# Altium footprint library Real_Steel_Robotics.PcbLib: 17 footprints (part 1 of 2)
Each footprint in its own frame and in the unit in brackets; x right, y up, seen from the top. Pads: shape width x height; smd on the part's side, far side on the other; paste and mask are expansions set on the pad; w line width, h text height; cw(c..) or ccw(c..) is an arc to the next point about the centre after c.
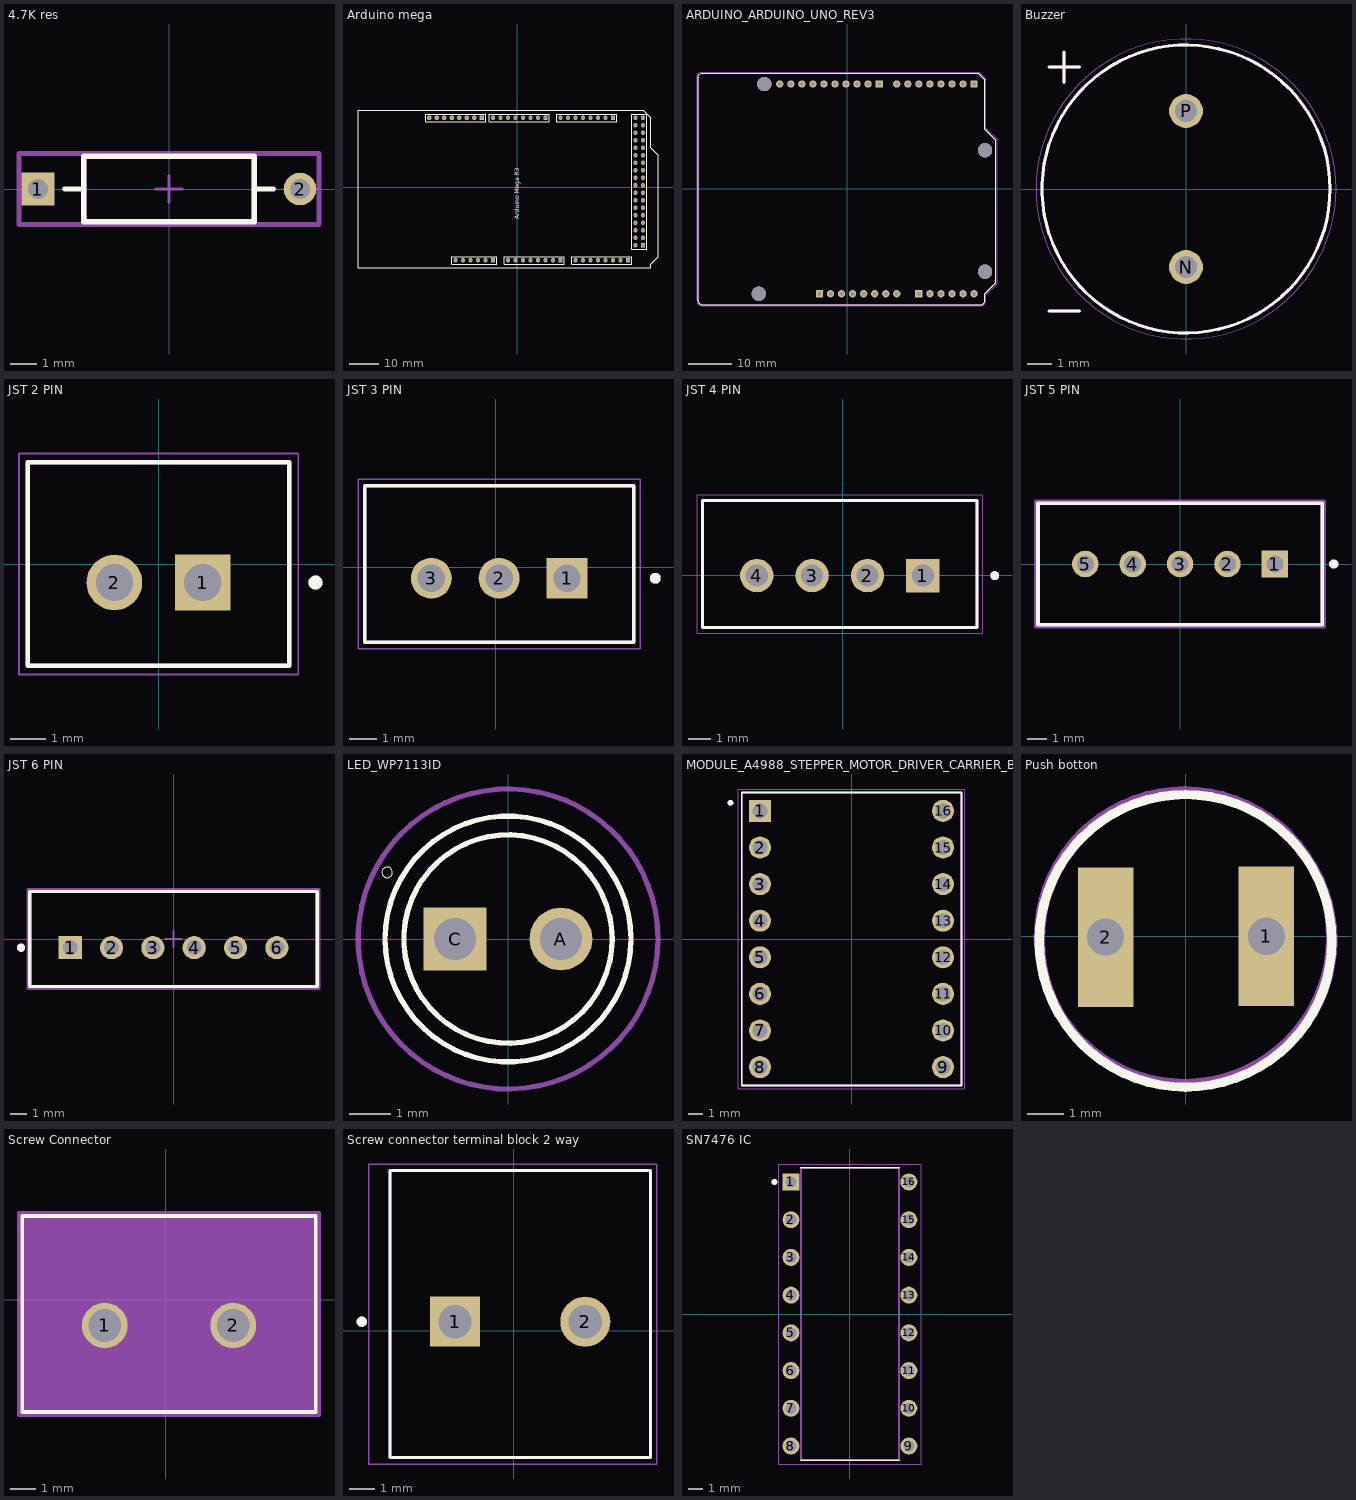
[diagram p0: the footprints below, top view; thin cyan lines are the x and y axes]

## 4.7K res [mm]
pads (2):
  rect 1.25x1.25 hole 0.75 paste-2539.97 mask+0: 1(-5,0)
  round 1.25 hole 0.75 paste-2539.97 mask+0: 2(5,0)
Top Overlay:
  lines w0.2: -3.975,0 -3.25,0 ; 3.25,0 3.975,0 ; -3.25,-1.25 3.25,-1.25 3.25,1.25 -3.25,1.25 -3.25,-1.25
Top 3D Body:
  lines w0.2: -3.25,-1.25 3.25,-1.25 3.25,1.25 -3.25,1.25 -3.25,-1.25
Board:
  lines w0.2: -5.725,-1.35 5.725,-1.35 5.725,1.35 -5.725,1.35 -5.725,-1.35
Top Assembly:
  lines w0.2: -5.725,-1.35 5.725,-1.35 5.725,1.35 -5.725,1.35 -5.725,-1.35
Top Component Center:
  lines w0.1: -0.5,0 0.5,0 ; 0,-0.5 0,0.5
3D body "Res_Vishay_MRS25000C1910FCT00_eec.STEP": height 0.25, standoff 0, extent -5.725,-1.35 5.725,1.35

## Arduino mega [mm]
pads (82):
  rect 1.5x1.5 hole 0.9: 0(9.525,23.495) 8(-12.065,23.495) 21(32.385,23.495) 59(-8.255,-24.765) 67(14.605,-24.765) 75(37.465,-24.765) 79(42.545,-19.685)
  round 1.5 hole 0.9: 1(6.985,23.495) 2(4.445,23.495) 3(1.905,23.495) 4(-0.635,23.495) 5(-3.175,23.495) 6(-5.715,23.495) 7(-8.255,23.495) 9(-14.605,23.495) 10(-17.145,23.495) 11(-19.685,23.495) 12(-22.225,23.495) 13(-24.765,23.495) 14(14.605,23.495) 15(17.145,23.495) 16(19.685,23.495) 17(22.225,23.495) 18(24.765,23.495) 19(27.305,23.495) 20(29.845,23.495) 22(40.005,20.955) 23(42.545,20.955) 24(40.005,18.415) 25(42.545,18.415) 26(40.005,15.875) 27(42.545,15.875) 28(40.005,13.335) 29(42.545,13.335) 30(40.005,10.795) 31(42.545,10.795) 32(40.005,8.255) 33(42.545,8.255) 34(40.005,5.715) 35(42.545,5.715) 36(40.005,3.175) 37(42.545,3.175) 38(40.005,0.635) 39(42.545,0.635) 40(40.005,-1.905) 41(42.545,-1.905) 42(40.005,-4.445) 43(42.545,-4.445) 44(40.005,-6.985) 45(42.545,-6.985) 46(40.005,-9.525) 47(42.545,-9.525) 48(40.005,-12.065) 49(42.545,-12.065) 50(40.005,-14.605) 51(42.545,-14.605) 52(40.005,-17.145) 53(42.545,-17.145) 54(-20.955,-24.765) 55(-18.415,-24.765) 56(-15.875,-24.765) 57(-13.335,-24.765) 58(-10.795,-24.765) 60(-3.175,-24.765) 61(-0.635,-24.765) 62(1.905,-24.765) 63(4.445,-24.765) 64(6.985,-24.765) 65(9.525,-24.765) 66(12.065,-24.765) 68(19.685,-24.765) 69(22.225,-24.765) 70(24.765,-24.765) 71(27.305,-24.765) 72(29.845,-24.765) 73(32.385,-24.765) 74(34.925,-24.765) 76(-27.305,23.495) 77(-29.845,23.495) 78(40.005,-19.685) 80(42.545,23.495) 81(40.005,23.495)
Top Overlay:
  lines w0.2: -31.115,22.225 -10.795,22.225 -10.795,24.765 -31.115,24.765 -31.115,22.225 ; -22.225,-26.035 -22.225,-23.495 -6.985,-23.495 -6.985,-26.035 -22.225,-26.035 ; -9.525,22.225 10.795,22.225 10.795,24.765 -9.525,24.765 -9.525,22.225 ; -4.445,-26.035 15.875,-26.035 15.875,-23.495 -4.445,-23.495 -4.445,-26.035 ; 13.335,22.225 13.335,24.765 33.655,24.765 33.655,22.225 13.335,22.225 ; 18.415,-26.035 38.735,-26.035 38.735,-23.495 18.415,-23.495 18.415,-26.035 ; 38.735,-20.955 43.815,-20.955 43.815,24.765 38.735,24.765 38.735,-20.955
  lines w0.254: 45.085,13.325 47.625,10.785 47.625,-23.495 45.085,-26.035 45.085,-27.305 -52.335,-27.305 -53.975,-27.305 -53.975,-25.665 -53.975,26.035 42.545,26.035 45.085,23.495 45.085,13.335
  text "Arduino Mega R3" at 0.635,-10.795 h1.52

## ARDUINO_ARDUINO_UNO_REV3 [mil]
pads (36):
  round 66 hole 40: 3V3(50.89,-949.18) 5V(150.89,-949.18) A1(750.89,-949.18) A2(850.89,-949.18) A3(950.89,-949.18) A4(1050.89,-949.18) A4_SDA(-509.11,950.82) A5(1150.89,-949.18) A5_SCL(-609.11,950.82) AREF(-409.11,950.82) D1(1050.89,950.82) D2(950.89,950.82) D3(850.89,950.82) D4(750.89,950.82) D5(650.89,950.82) D6(550.89,950.82) D7(450.89,950.82) D9(190.89,950.82) D10(90.89,950.82) D11(-9.11,950.82) D12(-109.11,950.82) D13(-209.11,950.82) GND_1(350.89,-949.18) GND_2(250.89,-949.18) GND_3(-309.11,950.82) IOREF(-149.11,-949.18) RST(-49.11,-949.18) VIN(450.89,-949.18)
  rect 66x66 / inner round 66 / far side rect 66x66 hole 40: A0(650.89,-949.18) D0(1150.89,950.82) D8(290.89,950.82) P1(-249.11,-949.18)
  round 129.92 hole 129.92 unplated: ""(-799.11,-949.18) ""(-749.11,950.82) ""(1250.89,-749.18) ""(1250.89,350.81)
Top Overlay:
  lines w5: -1349.11,-1010.09 -1349.11,1009.2 -1347.44,1020.03 -1344.11,1029.19 -1337.44,1037.52 -1329.11,1043.35 -1319.95,1047.52 -1309.95,1049.18 1189.16,1049.18 1249.14,989.2 1249.14,539.37 1349.11,439.4 1349.11,-849.31 1249.14,-949.28 1249.14,-1010.09 1247.48,-1020.08 1244.15,-1029.25 1237.48,-1037.58 1229.15,-1044.24 1219.98,-1047.57 1209.99,-1049.24 -1309.95,-1049.24 -1319.95,-1047.57 -1329.11,-1044.24 -1337.44,-1037.58 -1344.11,-1029.25 -1347.44,-1020.08 -1349.11,-1010.09
Mechanical 13:
  lines w5: -1349.11,-1010.09 -1349.11,1009.2 -1347.44,1020.03 -1344.11,1029.19 -1337.44,1037.52 -1329.11,1043.35 -1319.95,1047.52 -1309.95,1049.18 1189.16,1049.18 1249.14,989.2 1249.14,539.37 1349.11,439.4 1349.11,-849.31 1249.14,-949.28 1249.14,-1010.09 1247.48,-1020.08 1244.15,-1029.25 1237.48,-1037.58 1229.15,-1044.24 1219.98,-1047.57 1209.99,-1049.24 -1309.95,-1049.24 -1319.95,-1047.57 -1329.11,-1044.24 -1337.44,-1037.58 -1344.11,-1029.25 -1347.44,-1020.08 -1349.11,-1010.09
Mechanical 15:
  lines w1.97: -1358.95,-1010.09 -1358.95,-1009.82 -1358.95,1019.04 -1357.28,1029.87 -1353.95,1039.04 -1347.29,1047.37 -1338.96,1053.2 -1329.79,1057.36 -1319.8,1059.03 1199,1059.03 1258.98,999.05 1258.98,549.21 1358.95,449.24 1358.95,-859.15 1258.98,-959.12 1258.98,-1010.09 ; -1358.94,-1009.69 ccw(c-1312.41,-1012.94) -1319.71,-1059.01 ; -1319.8,-1059.08 1209.99,-1059.08 ; 1210.4,-1059.01 ccw(c1207.7,-1007.57) 1259.14,-1010.26

## Buzzer [mm]
pads (2):
  round 1.408 hole 0.9: N(0,-3.25) P(0,3.25)
Top Overlay:
  circle w0.127: c0,0 r6
  lines w0.127: -5.715,-5.08 -4.445,-5.08 ; -5.715,5.08 -4.445,5.08 ; -5.08,4.445 -5.08,5.715
Mechanical 13:
  circle w0.127: c0,0 r6
  lines w0.127: -5.715,-5.08 -4.445,-5.08 ; -5.715,5.08 -4.445,5.08 ; -5.08,4.445 -5.08,5.715
Mechanical 15:
  circle w0.05: c0,0 r6.25

## JST 2 PIN [mm]
height 7
pads (2):
  rect 1.575x1.575 / inner round 1.575 / far side rect 1.575x1.575 hole 1.05: 1(1.25,-0.525)
  round 1.575 hole 1.05: 2(-1.25,-0.525)
Top Overlay:
  circle w0.2: c4.44,-0.525 r0.1
  lines w0.127: -3.7,-2.875 -3.7,2.875 3.7,2.875 3.7,-2.875 -3.7,-2.875
Mechanical 13:
  circle w0.2: c4.44,-0.525 r0.1
  lines w0.127: -3.7,-2.875 -3.7,2.875 3.7,2.875 3.7,-2.875 -3.7,-2.875
Mechanical 15:
  lines w0.05: -3.95,-3.125 3.95,-3.125 3.95,3.125 -3.95,3.125 -3.95,-3.125
3D body "step_temp.STEP": height 7, standoff -3.4, extent -3.7,-2.875 3.7,2.875

## JST 3 PIN [mm]
pads (3):
  rect 1.508x1.508 / inner round 1.508 / far side rect 1.508x1.508 hole 1: 1(2.627,-0.398)
  round 1.508 hole 1: 2(0.127,-0.398) 3(-2.373,-0.398)
Top Overlay:
  circle w0.2: c5.877,-0.398 r0.1
  lines w0.127: -4.823,-2.748 -4.823,3.002 5.077,3.002 5.077,-2.748 -4.823,-2.748
Mechanical 13:
  circle w0.2: c5.877,-0.398 r0.1
  lines w0.127: -4.823,-2.748 -4.823,3.002 5.077,3.002 5.077,-2.748 -4.823,-2.748
Mechanical 15:
  lines w0.05: -5.073,-2.998 -5.073,3.252 5.327,3.252 5.327,-2.998 -5.073,-2.998
3D body "step_temp.STEP": height 7, standoff -3.4, extent -4.823,-2.748 5.077,3.002

## JST 4 PIN [mm]
pads (4):
  rect 1.508x1.508 / inner round 1.508 / far side rect 1.508x1.508 hole 1: 1(3.623,-0.017)
  round 1.508 hole 1: 2(1.123,-0.017) 3(-1.377,-0.017) 4(-3.877,-0.017)
Top Overlay:
  circle w0.2: c6.873,-0.017 r0.1
  lines w0.127: -6.327,-2.367 -6.327,3.383 6.073,3.383 6.073,-2.367 -6.327,-2.367
Mechanical 13:
  circle w0.2: c6.873,-0.017 r0.1
  lines w0.127: -6.327,-2.367 -6.327,3.383 6.073,3.383 6.073,-2.367 -6.327,-2.367
Mechanical 15:
  lines w0.05: -6.577,-2.617 -6.577,3.633 6.323,3.633 6.323,-2.617 -6.577,-2.617
3D body "step_temp.STEP": height 7, standoff -3.4, extent -6.327,-2.367 6.073,3.383

## JST 5 PIN [mm]
pads (5):
  rect 1.4x1.4 hole 0.9 paste-2539.97 mask+0: 1(5,0)
  round 1.4 hole 0.9 paste-2539.97 mask+0: 2(2.5,0) 3(0,0) 4(-2.5,0) 5(-5,0)
Top Overlay:
  circle w0.25: c8.1,0 r0.125
  lines w0.2: -7.5,-3.2 7.5,-3.2 7.5,3.2 -7.5,3.2 -7.5,-3.2
Top 3D Body:
  lines w0.2: -7.5,-3.2 7.5,-3.2 7.5,3.2 -7.5,3.2 -7.5,-3.2
Top Courtyard:
  lines w0.2: -7.6,-3.3 7.6,-3.3 7.6,3.3 -7.6,3.3 -7.6,-3.3
Top Assembly:
  lines w0.2: -7.6,-3.3 7.6,-3.3 7.6,3.3 -7.6,3.3 -7.6,-3.3
  text ".Designator" at 0,0.188 h1
Top Component Center:
  lines w0.1: -0.5,0 0.5,0 ; 0,-0.5 0,0.5
3D body "Conn_JST_B05B-XASK-1_LF_SN_eec.STEP": height 0.25, standoff 0, extent -7.6,-3.3 7.6,3.3

## JST 6 PIN [mm]
pads (6):
  rect 1.4x1.4 hole 0.9 paste-2539.97 mask+0: 1(-6.25,-0.525)
  round 1.4 hole 0.9 paste-2539.97 mask+0: 2(-3.75,-0.525) 3(-1.25,-0.525) 4(1.25,-0.525) 5(3.75,-0.525) 6(6.25,-0.525)
Top Overlay:
  circle w0.25: c-9.225,-0.525 r0.125
  lines w0.2: -8.7,-2.875 8.7,-2.875 8.7,2.875 -8.7,2.875 -8.7,-2.875
Top 3D Body:
  lines w0.2: -8.7,-2.875 8.7,-2.875 8.7,2.875 -8.7,2.875 -8.7,-2.875
Top Courtyard:
  lines w0.2: -8.8,-2.975 8.8,-2.975 8.8,2.975 -8.8,2.975 -8.8,-2.975
Top Assembly:
  lines w0.2: -8.8,-2.975 8.8,-2.975 8.8,2.975 -8.8,2.975 -8.8,-2.975
  text ".Designator" at 0,0.188 h1
Top Component Center:
  lines w0.1: -0.5,0 0.5,0 ; 0,-0.5 0,0.5
3D body "Conn_JST_B6B-XH-A_LF_SN_eec.STEP": height 0.25, standoff 0, extent -8.8,-2.975 8.8,2.975

## LED_WP7113ID [mm]
pads (2):
  round 1.508 hole 1: A(1.27,0)
  rect 1.508x1.508 / inner round 1.508 / far side rect 1.508x1.508 hole 1: C(-1.27,0)
Top Overlay:
  circle w0: c-2.9,1.6 r0.127
  circle w0.127: c0,0 r2.5
  circle w0.127: c0,0 r2.95
Mechanical 15:
  circle w0.127: c0,0 r3.6
3D body "step_temp.STEP": height 9.6, standoff -26, extent -2.5,-2.95 2.95,2.95

## MODULE_A4988_STEPPER_MOTOR_DRIVER_CARRIER_BLACK [mm]
pads (16):
  rect 1.53x1.53 hole 1.02: 1(-6.35,8.89)
  round 1.53 hole 1.02: 2(-6.35,6.35) 3(-6.35,3.81) 4(-6.35,1.27) 5(-6.35,-1.27) 6(-6.35,-3.81) 7(-6.35,-6.35) 8(-6.35,-8.89) 9(6.35,-8.89) 10(6.35,-6.35) 11(6.35,-3.81) 12(6.35,-1.27) 13(6.35,1.27) 14(6.35,3.81) 15(6.35,6.35) 16(6.35,8.89)
Top Overlay:
  circle w0.2: c-8.4,9.45 r0.1
  lines w0.127: -7.62,-10.16 7.62,-10.16 7.62,10.16 -7.62,10.16 -7.62,-10.16
Mechanical 13:
  circle w0.2: c-8.4,9.45 r0.1
  lines w0.127: -7.62,-10.16 7.62,-10.16 7.62,10.16 -7.62,10.16 -7.62,-10.16
Mechanical 15:
  lines w0.05: -7.87,-10.41 -7.87,10.41 7.87,10.41 7.87,-10.41 -7.87,-10.41

## PCBComponent_1 [mil]

## Push botton [mil]
pads (2):
  rect 60x150 / inner rect 40x200 / far side rect 60x150 hole 40 square: 1(87,0) 2(-86,-1)
Top Overlay:
  circle w10: c0,-5 r157.48
Mechanical 1:
  circle w10: c1,-4 r157.48
Mechanical 15:
  circle w10: c-1,-1 r157.48

## Screw Connector [mil]
pads (2):
  round 71 / inner round 60 / far side round 71 hole 51 paste-99999 mask+0: 1(-95,-40) 2(105,-40)
Top Overlay:
  lines w6: -223.5,-174.65 233.5,-174.65 233.5,130.35 -223.5,130.35 -223.5,-174.65
Mechanical 13:
  lines w1: -218.5,-169.65 228.5,-169.65 228.5,125.35 -218.5,125.35 -218.5,-169.65
Mechanical 15:
  region: 238.5,135.35 -228.5,135.35 -228.5,-179.65 238.5,-179.65
  lines w6: -228.5,-179.65 -228.5,135.35 238.5,135.35 238.5,-179.65 -228.5,-179.65

## Screw connector terminal block 2 way [mm]
pads (2):
  rect 1.95x1.95 / inner round 1.95 / far side rect 1.95x1.95 hole 1.3: 1(-2.286,0.347)
  round 1.95 hole 1.3: 2(2.794,0.347)
Top Overlay:
  circle w0.2: c-5.926,0.347 r0.1
  lines w0.127: -4.826,-4.953 5.334,-4.953 5.334,6.247 -4.826,6.247 -4.826,-4.953
Mechanical 13:
  circle w0.2: c-5.926,0.347 r0.1
  lines w0.127: -4.826,-4.953 5.334,-4.953 5.334,6.247 -4.826,6.247 -4.826,-4.953
Mechanical 15:
  lines w0.05: -5.646,-5.203 5.584,-5.203 5.584,6.497 -5.646,6.497 -5.646,-5.203

## SN7476 IC [mm]
height 5.08
pads (16):
  rect 1.14x1.14 / inner round 1.14 / far side rect 1.14x1.14 hole 0.74: 1(-3.97,8.89)
  round 1.14 hole 0.74: 2(-3.97,6.35) 3(-3.97,3.81) 4(-3.97,1.27) 5(-3.97,-1.27) 6(-3.97,-3.81) 7(-3.97,-6.35) 8(-3.97,-8.89) 9(3.97,-8.89) 10(3.97,-6.35) 11(3.97,-3.81) 12(3.97,-1.27) 13(3.97,1.27) 14(3.97,3.81) 15(3.97,6.35) 16(3.97,8.89)
Top Overlay:
  circle w0.2: c-5.08,8.89 r0.1
  lines w0.127: -3.3,-9.85 3.3,-9.85 ; -3.3,9.85 3.3,9.85
Mechanical 13:
  circle w0.2: c-5.08,8.89 r0.1
  lines w0.127: -3.3,-9.85 -3.3,9.85 3.3,9.85 3.3,-9.85 -3.3,-9.85
Mechanical 15:
  lines w0.05: -4.79,-10.1 4.79,-10.1 4.79,10.1 -4.79,10.1 -4.79,-10.1
3D body "step_temp.STEP": height 5.08, standoff -3.3, extent -3.95,-10.67 3.95,10.67